# EAGLE library part HM6516 (library micro-harris)
MICROCONTROLLER/MEMORY DEVICE
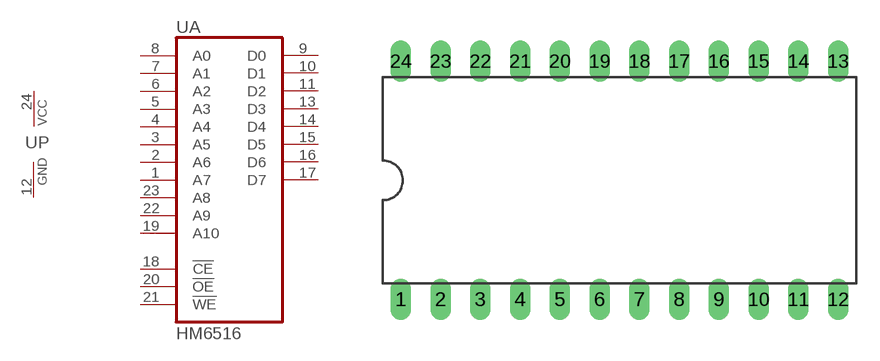
[diagram p13: symbol with the pads of DIL24-6; footprint DIL24-6]

Designator prefix U; gates A=HM6516 P=PWRN

## HM6516 (OC_FARNELL: unknown; OC_NEWARK: unknown)  [DIL24-6]
1  A:A7  in
2  A:A6  in
3  A:A5  in
4  A:A4  in
5  A:A3  in
6  A:A2  in
7  A:A1  in
8  A:A0  in
9  A:D0
10  A:D1
11  A:D2
12  P:GND  pwr
13  A:D3
14  A:D4
15  A:D5
16  A:D6
17  A:D7
18  A:!CE  in
19  A:A10  in
20  A:!OE  in
21  A:!WE  in
22  A:A9  in
23  A:A8  in
24  P:VCC  pwr

## Footprint DIL24-6 (pad centres in mm)
Dual In Line Package 0.6 inch
drill 0.813 long: 1 -13.97,-7.62; 2 -11.43,-7.62; 3 -8.89,-7.62; 4 -6.35,-7.62; 5 -3.81,-7.62; 6 -1.27,-7.62; 7 1.27,-7.62; 8 3.81,-7.62; 9 6.35,-7.62; 10 8.89,-7.62; 11 11.43,-7.62; 12 13.97,-7.62; 13 13.97,7.62; 14 11.43,7.62; 15 8.89,7.62; 16 6.35,7.62; 17 3.81,7.62; 18 1.27,7.62; 19 -1.27,7.62; 20 -3.81,7.62; 21 -6.35,7.62; 22 -8.89,7.62; 23 -11.43,7.62; 24 -13.97,7.62